# Altium integrated library SKMW30F-05.IntLib: 1 symbol
Pins are listed as number, name and electrical type; pins without a type are passive.

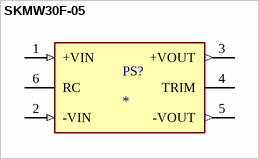
[diagram p0: symbol SKMW30F-05]

## SKMW30F-05
designator PS?
Isolated Module DC DC Converter 1 Output 5V - - - 6A 9V - 36V Input; MF: MEAN WELL USA Inc.; MP: SKMW30F-05; SnapEDA_Link: https://www.snapeda.com/parts/SKMW30F-05/MEAN+WELL+USA+Inc./view-part/?ref=snap; Package: None; Value: *; Check_prices: https://www.snapeda.com/parts/SKMW30F-05/MEAN+WELL+USA+Inc./view-part/?ref=eda
footprint CONV_SKMW30F-05
pins: 1 +VIN (in), 2 -VIN (in), 3 +VOUT (out), 4 TRIM, 5 -VOUT (out), 6 RC